# EAGLE library part SS-6566-NF (library Stewart)
AMP CONNECTOR
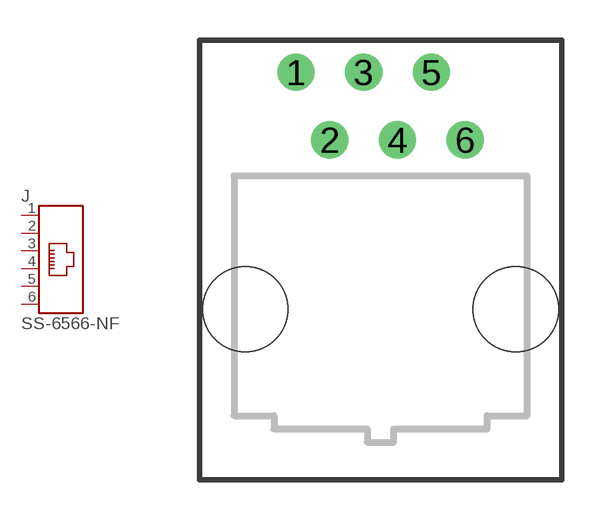
[diagram p0: symbol with the pads of SS-6566-NF; footprint SS-6566-NF]

Designator prefix J

## SS-6566-NF  [SS-6566-NF]
1  1  pas
2  2  pas
3  3  pas
4  4  pas
5  5  pas
6  6  pas

## Footprint SS-6566-NF (pad centres in mm)
AMP CONNECTOR
drill 0.889: 1 -3.175,8.89; 2 -1.905,6.35; 3 -0.635,8.89; 4 0.635,6.35; 5 1.905,8.89; 6 3.175,6.35
hole 3.2 at 5.08,0
hole 3.2 at -5.08,0